# EAGLE library part AD8302 (library balmer)
PHASE DETECTOR
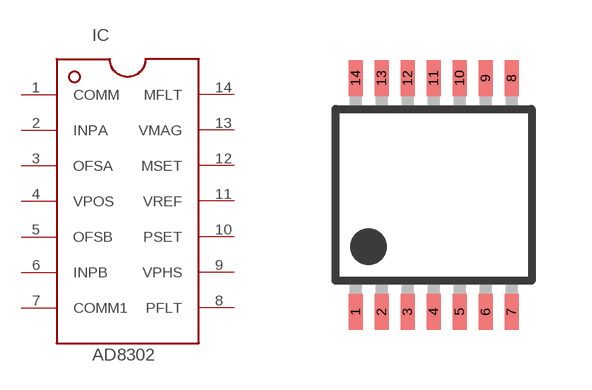
[diagram p19: symbol with the pads of TSSOP14; footprint TSSOP14]

Designator prefix IC

## AD8302  [TSSOP14]
1  COMM
2  INPA
3  OFSA
4  VPOS
5  OFSB
6  INPB
7  COMM1
8  PFLT
9  VPHS
10  PSET
11  VREF
12  MSET
13  VMAG
14  MFLT

## Footprint TSSOP14 (pad centres in mm)
plastic thin shrink small outline package; 14 leads; body width 4.4 mm SOT402-1 Source: http://www.nxp.com/documents/data_sheet/74ABT125.pdf
smd 0.35 x 0.9: 1 -1.95,-2.925; 2 -1.3,-2.925; 3 -0.65,-2.925; 4 0,-2.925; 5 0.65,-2.925; 6 1.3,-2.925; 7 1.95,-2.925; 8 1.95,2.925; 9 1.3,2.925; 10 0.65,2.925; 11 0,2.925; 12 -0.65,2.925; 13 -1.3,2.925; 14 -1.95,2.925